# EAGLE library part RGB_LED (library Rohit_Libs)
P LCC -6 LED RGB Part By: Rohit Gupta
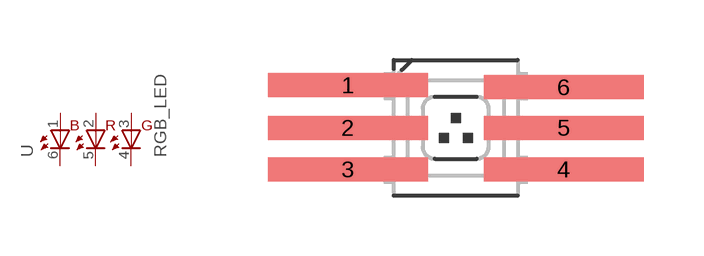
[diagram p9: symbol with the pads of P-LCC-6_TOPLED; footprint P-LCC-6_TOPLED]

Designator prefix -

## RGB_LED  [P-LCC-6_TOPLED]
1  BA  pas
2  RA  pas
3  GA  pas
4  GC  pas
5  RC  pas
6  BC  pas

## Footprint P-LCC-6_TOPLED (pad centres in mm)
P-LCC-6 TOPLED MULTILED® Source: OSRAM - LRTB_G6TG.pdf
smd 4 x 0.6: 1 -2.7,1.067; 2 -2.7,0; 3 -2.7,-1.041; 4 2.7,-1.041; 5 2.7,0; 6 2.7,1.016